# Altium footprint library 618 0xx 231 121.PcbLib: 4 footprints
Each footprint in its own frame and in the unit in brackets; x right, y up, seen from the top. Pads: shape width x height; smd on the part's side, far side on the other; paste and mask are expansions set on the pad; w line width, h text height; cw(c..) or ccw(c..) is an arc to the next point about the centre after c.
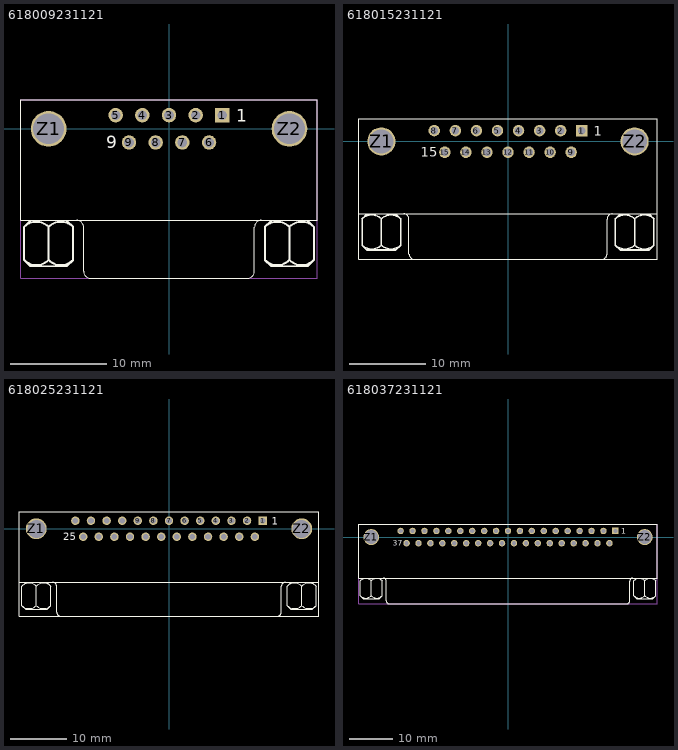
[diagram p0: the footprints below, top view; thin cyan lines are the x and y axes]

## 618009231121 [mm] "9 pins, right angled, 8.08mm, with hex screw"
height 12.5
pads (11):
  rect 1.5x1.5 hole 1: 1(5.54,1.42)
  round 1.5 hole 1: 2(2.77,1.42) 3(0,1.42) 4(-2.77,1.42) 5(-5.54,1.42) 6(4.155,-1.42) 7(1.385,-1.42) 8(-1.385,-1.42) 9(-4.155,-1.42)
  round 3.7 hole 3.2: Z1(-12.5,0) Z2(12.5,0)
Top Overlay:
  lines w0.127: -9.56,-9.505 cw(c-9.56,-10.2) -8.865,-10.2 -8.865,-14.8 ; -8.86,-14.805 ccw(c-8.165,-14.805) -8.165,-15.5 8.165,-15.5 ccw(c8.165,-14.805) 8.86,-14.805 ; 8.865,-14.8 8.865,-10.2 cw(c9.56,-10.2) 9.56,-9.505 ; -15.4,-9.5 15.4,-9.5 15.4,3 -15.4,3 -15.4,-9.5
  lines w0.2: -15.042,-13.635 -14.407,-14.27 -10.597,-14.27 -9.962,-13.635 -9.962,-10.179 -10.597,-9.544 ; -15.042,-13.62 -15.042,-10.179 -14.407,-9.544 ; -15.042,-12.568 -15.042,-12.356 ; -12.502,-13.62 -12.502,-10.179 ; 9.958,-13.635 10.593,-14.27 14.403,-14.27 15.038,-13.635 15.038,-10.179 14.403,-9.544 ; 9.958,-13.62 9.958,-10.179 10.593,-9.544 ; 9.958,-12.568 9.958,-12.356 ; 12.498,-13.62 12.498,-10.179
  lines w0.203: -15.044,-10.177 cw(c-13.772,-11.449) -12.5,-10.177 ; -15.042,-13.62 ccw(c-13.77,-12.348) -12.498,-13.62 ; -12.507,-13.62 ccw(c-11.234,-12.348) -9.962,-13.62 ; -12.504,-10.177 cw(c-11.232,-11.449) -9.96,-10.177 ; 9.956,-10.177 cw(c11.228,-11.449) 12.5,-10.177 ; 9.958,-13.62 ccw(c11.23,-12.348) 12.502,-13.62 ; 12.493,-13.62 ccw(c13.766,-12.348) 15.038,-13.62 ; 12.496,-10.177 cw(c13.768,-11.449) 15.04,-10.177
  text "9" at -6.5,-2 h1.27
  text "1" at 7,0.75 h1.27
Mechanical 13:
  lines w0.127: -15.4,-15.5 -15.4,3 15.4,3 15.4,-15.5 -15.4,-15.5
3D body: height 12.51, standoff -3.17, extent -15.395,-15.5 15.405,3

## 618015231121 [mm] "15 pins, right angled, 8.08mm, with hex screw"
height 12.5
pads (17):
  rect 1.5x1.5 hole 1: 1(9.695,1.42)
  round 1.5 hole 1: 2(6.925,1.42) 3(4.155,1.42) 4(1.385,1.42) 5(-1.385,1.42) 6(-4.155,1.42) 7(-6.925,1.42) 8(-9.695,1.42) 9(8.31,-1.42) 10(5.54,-1.42) 11(2.77,-1.42) 12(0,-1.42) 13(-2.77,-1.42) 14(-5.54,-1.42) 15(-8.31,-1.42)
  round 3.7 hole 3.2: Z1(-16.65,0) Z2(16.65,0)
Top Overlay:
  lines w0.127: -13.715,-9.505 cw(c-13.715,-10.2) -13.02,-10.2 -13.02,-14.8 ; -13.015,-14.805 ccw(c-12.32,-14.805) -12.32,-15.5 12.32,-15.5 ccw(c12.32,-14.805) 13.015,-14.805 ; 13.02,-14.8 13.02,-10.2 cw(c13.715,-10.2) 13.715,-9.505 ; -19.6,-15.5 -19.6,-9.5 ; -19.6,-15.5 19.6,-15.5 ; -19.6,-15.5 -19.6,3 ; -19.6,-15.5 19.6,-15.5 ; -19.6,-9.5 19.6,-9.5 ; -19.6,-9.5 -19.6,3 ; -19.6,3 19.6,3 ; -19.6,3 19.6,3 ; 19.6,-15.5 19.6,-9.5 ; 19.6,-15.5 19.6,3 ; 19.6,-9.5 19.6,3
  lines w0.2: -19.192,-13.635 -18.557,-14.27 -14.747,-14.27 -14.112,-13.635 -14.112,-10.179 -14.747,-9.544 ; -19.192,-13.62 -19.192,-10.179 -18.557,-9.544 ; -19.192,-12.568 -19.192,-12.356 ; -16.652,-13.62 -16.652,-10.179 ; 14.108,-13.635 14.743,-14.27 18.553,-14.27 19.188,-13.635 19.188,-10.179 18.553,-9.544 ; 14.108,-13.62 14.108,-10.179 14.743,-9.544 ; 14.108,-12.568 14.108,-12.356 ; 16.648,-13.62 16.648,-10.179
  lines w0.203: -19.194,-10.177 cw(c-17.922,-11.449) -16.65,-10.177 ; -19.192,-13.62 ccw(c-17.92,-12.348) -16.648,-13.62 ; -16.657,-13.62 ccw(c-15.384,-12.348) -14.112,-13.62 ; -16.654,-10.177 cw(c-15.382,-11.449) -14.11,-10.177 ; 14.106,-10.177 cw(c15.378,-11.449) 16.65,-10.177 ; 14.108,-13.62 ccw(c15.38,-12.348) 16.652,-13.62 ; 16.643,-13.62 ccw(c17.916,-12.348) 19.188,-13.62 ; 16.646,-10.177 cw(c17.918,-11.449) 19.19,-10.177
  text "15" at -11.5,-2 h1.27
  text "1" at 11.25,0.75 h1.27
3D body: height 12.51, standoff -3.17, extent -19.6,-15.5 19.6,3

## 618025231121 [mm] "25 pins, right angled, 8.08mm, with hex screw"
height 12.5
pads (27):
  rect 1.5x1.5 hole 1: 1(16.62,1.42)
  round 1.5 hole 1: 2(13.85,1.42) 3(11.08,1.42) 4(8.31,1.42) 5(5.54,1.42) 6(2.77,1.42) 7(0,1.42) 8(-2.77,1.42) 9(-5.54,1.42) 10(-8.31,1.42) 11(-11.08,1.42) 12(-13.85,1.42) 13(-16.62,1.42) 14(15.235,-1.42) 15(12.465,-1.42) 16(9.695,-1.42) 17(6.925,-1.42) 18(4.155,-1.42) 19(1.385,-1.42) 20(-1.385,-1.42) 21(-4.155,-1.42) 22(-6.925,-1.42) 23(-9.695,-1.42) 24(-12.465,-1.42) 25(-15.235,-1.42)
  round 3.7 hole 3.2: Z1(-23.55,0) Z2(23.55,0)
Top Overlay:
  lines w0.127: -20.64,-9.505 cw(c-20.64,-10.2) -19.945,-10.2 -19.945,-14.8 ; -19.94,-14.805 ccw(c-19.245,-14.805) -19.245,-15.5 19.245,-15.5 ccw(c19.245,-14.805) 19.94,-14.805 ; 19.945,-14.8 19.945,-10.2 cw(c20.64,-10.2) 20.64,-9.505 ; -26.55,-15.5 26.55,-15.5 ; -26.55,-15.5 -26.55,3 ; -26.55,-15.5 26.55,-15.5 ; -26.55,-15.5 -26.55,-9.5 ; -26.55,-9.5 -26.55,3 ; -26.55,-9.5 26.55,-9.5 ; -26.55,3 26.55,3 ; -26.55,3 26.55,3 ; 26.55,-15.5 26.55,3 ; 26.55,-15.5 26.55,-9.5 ; 26.55,-9.5 26.55,3
  lines w0.2: -26.092,-13.635 -25.457,-14.27 -21.647,-14.27 -21.012,-13.635 -21.012,-10.179 -21.647,-9.544 ; -26.092,-13.62 -26.092,-10.179 -25.457,-9.544 ; -26.092,-12.568 -26.092,-12.356 ; -23.552,-13.62 -23.552,-10.179 ; 21.008,-13.635 21.643,-14.27 25.453,-14.27 26.088,-13.635 26.088,-10.179 25.453,-9.544 ; 21.008,-13.62 21.008,-10.179 21.643,-9.544 ; 21.008,-12.568 21.008,-12.356 ; 23.548,-13.62 23.548,-10.179
  lines w0.203: -26.094,-10.177 cw(c-24.822,-11.449) -23.55,-10.177 ; -26.092,-13.62 ccw(c-24.82,-12.348) -23.548,-13.62 ; -23.557,-13.62 ccw(c-22.284,-12.348) -21.012,-13.62 ; -23.554,-10.177 cw(c-22.282,-11.449) -21.01,-10.177 ; 21.006,-10.177 cw(c22.278,-11.449) 23.55,-10.177 ; 21.008,-13.62 ccw(c22.28,-12.348) 23.552,-13.62 ; 23.543,-13.62 ccw(c24.816,-12.348) 26.088,-13.62 ; 23.546,-10.177 cw(c24.818,-11.449) 26.09,-10.177
  text "1" at 18.25,0.75 h1.27
  text "25" at -18.75,-2 h1.27
3D body: height 12.51, standoff -3.17, extent -26.55,-15.5 26.55,3

## 618037231121 [mm] "37 pins, right angled, 8.08mm, with hex screw"
height 12.5
pads (39):
  rect 1.5x1.5 hole 1: 1(24.93,1.42)
  round 1.5 hole 1: 2(22.16,1.42) 3(19.39,1.42) 4(16.62,1.42) 5(13.85,1.42) 6(11.08,1.42) 7(8.31,1.42) 8(5.54,1.42) 9(2.77,1.42) 10(0,1.42) 11(-2.77,1.42) 12(-5.54,1.42) 13(-8.31,1.42) 14(-11.08,1.42) 15(-13.85,1.42) 16(-16.62,1.42) 17(-19.39,1.42) 18(-22.16,1.42) 19(-24.93,1.42) 20(23.545,-1.42) 21(20.775,-1.42) 22(18.005,-1.42) 23(15.235,-1.42) 24(12.465,-1.42) 25(9.695,-1.42) 26(6.925,-1.42) 27(4.155,-1.42) 28(1.385,-1.42) 29(-1.385,-1.42) 30(-4.155,-1.42) 31(-6.925,-1.42) 32(-9.695,-1.42) 33(-12.465,-1.42) 34(-15.235,-1.42) 35(-18.005,-1.42) 36(-20.775,-1.42) 37(-23.545,-1.42)
  round 3.7 hole 3.2: Z1(-31.75,0) Z2(31.75,0)
Top Overlay:
  lines w0.127: -28.95,-9.505 cw(c-28.95,-10.2) -28.255,-10.2 -28.255,-14.8 ; -28.25,-14.805 ccw(c-27.555,-14.805) -27.555,-15.5 27.555,-15.5 ccw(c27.555,-14.805) 28.25,-14.805 ; 28.255,-14.8 28.255,-10.2 cw(c28.95,-10.2) 28.95,-9.505 ; -34.7,-9.5 -34.7,3 34.7,3 34.7,-9.5 -34.7,-9.5
  lines w0.2: -34.292,-13.635 -33.657,-14.27 -29.847,-14.27 -29.212,-13.635 -29.212,-10.179 -29.847,-9.544 ; -34.292,-13.62 -34.292,-10.179 -33.657,-9.544 ; -34.292,-12.568 -34.292,-12.356 ; -31.752,-13.62 -31.752,-10.179 ; 29.208,-13.635 29.843,-14.27 33.653,-14.27 34.288,-13.635 34.288,-10.179 33.653,-9.544 ; 29.208,-13.62 29.208,-10.179 29.843,-9.544 ; 29.208,-12.568 29.208,-12.356 ; 31.748,-13.62 31.748,-10.179
  lines w0.203: -34.294,-10.177 cw(c-33.022,-11.449) -31.75,-10.177 ; -34.292,-13.62 ccw(c-33.02,-12.348) -31.748,-13.62 ; -31.757,-13.62 ccw(c-30.484,-12.348) -29.212,-13.62 ; -31.754,-10.177 cw(c-30.482,-11.449) -29.21,-10.177 ; 29.206,-10.177 cw(c30.478,-11.449) 31.75,-10.177 ; 29.208,-13.62 ccw(c30.48,-12.348) 31.752,-13.62 ; 31.743,-13.62 ccw(c33.016,-12.348) 34.288,-13.62 ; 31.746,-10.177 cw(c33.018,-11.449) 34.29,-10.177
  text "1" at 26.25,0.75 h1.27
  text "37" at -26.75,-2 h1.27
Mechanical 13:
  lines w0.127: -34.7,-15.5 -34.7,3 34.7,3 34.7,-15.5 -34.7,-15.5
3D body: height 12.51, standoff -3.17, extent -34.7,-15.5 34.7,3